# Altium footprint library k7sch4.PcbLib: 7 footprints
Each footprint in its own frame and in the unit in brackets; x right, y up, seen from the top. Pads: shape width x height; smd on the part's side, far side on the other; paste and mask are expansions set on the pad; w line width, h text height; cw(c..) or ccw(c..) is an arc to the next point about the centre after c.
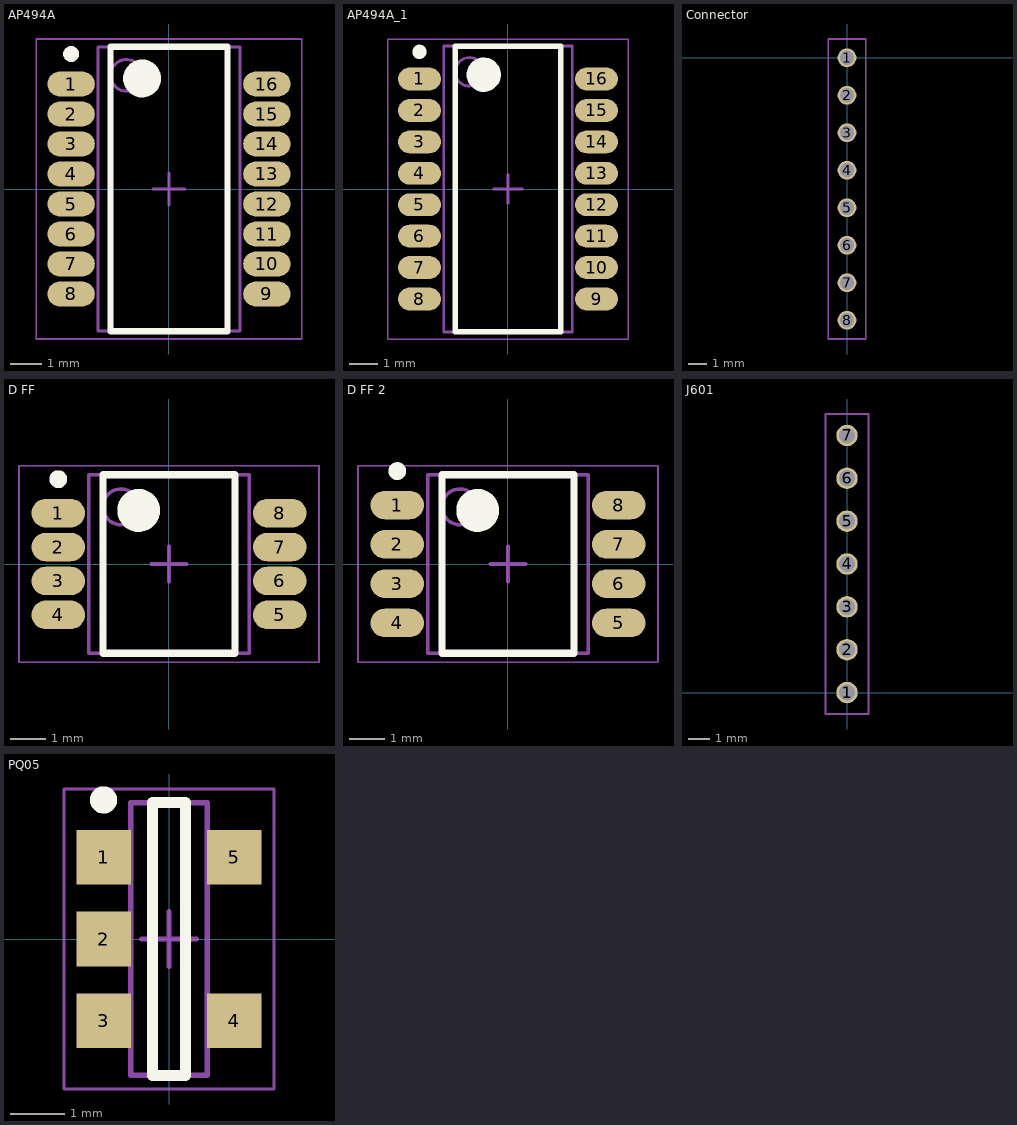
[diagram p0: the footprints below, top view; thin cyan lines are the x and y axes]

## AP494A [mm]
height 2.35
pads (16):
  oval 1.5x0.8 smd: 1(-3.1,3.325) 2(-3.1,2.375) 3(-3.1,1.425) 4(-3.1,0.475) 5(-3.1,-0.475) 6(-3.1,-1.425) 7(-3.1,-2.375) 8(-3.1,-3.325) 9(3.1,-3.325) 10(3.1,-2.375) 11(3.1,-1.425) 12(3.1,-0.475) 13(3.1,0.475) 14(3.1,1.425) 15(3.1,2.375) 16(3.1,3.325)
Top Overlay:
  circle w0.6: c-0.85,3.5 r0.3
  circle w0.25: c-3.1,4.275 r0.125
  lines w0.2: -1.85,-4.5 1.85,-4.5 1.85,4.5 -1.85,4.5 -1.85,-4.5
Mechanical 13:
  circle w0.1: c-1.35,3.6 r0.5
  lines w0.1: -2.25,-4.5 2.25,-4.5 2.25,4.5 -2.25,4.5 -2.25,-4.5
Mechanical 15:
  lines w0.05: -4.2,-4.75 4.2,-4.75 4.2,4.75 -4.2,4.75 -4.2,-4.75
  lines w0.1: -0.5,0 0.5,0 ; 0,-0.5 0,0.5
3D body: height 2.35, standoff 0.1, extent -2.25,-4.5 2.25,4.5

## AP494A_1 [mm]
height 2.35
pads (16):
  oval 1.5x0.8 smd: 1(-3.1,3.85) 2(-3.1,2.75) 3(-3.1,1.65) 4(-3.1,0.55) 5(-3.1,-0.55) 6(-3.1,-1.65) 7(-3.1,-2.75) 8(-3.1,-3.85) 9(3.1,-3.85) 10(3.1,-2.75) 11(3.1,-1.65) 12(3.1,-0.55) 13(3.1,0.55) 14(3.1,1.65) 15(3.1,2.75) 16(3.1,3.85)
Top Overlay:
  circle w0.6: c-0.85,4 r0.3
  circle w0.25: c-3.1,4.8 r0.125
  lines w0.2: -1.85,-5 1.85,-5 1.85,5 -1.85,5 -1.85,-5
Mechanical 13:
  circle w0.1: c-1.35,4.1 r0.5
  lines w0.1: -2.25,-5 2.25,-5 2.25,5 -2.25,5 -2.25,-5
Mechanical 15:
  lines w0.05: -4.2,-5.25 4.2,-5.25 4.2,5.25 -4.2,5.25 -4.2,-5.25
  lines w0.1: -0.5,0 0.5,0 ; 0,-0.5 0,0.5
3D body: height 2.35, standoff 0.1, extent -2.25,-5 2.25,5

## Connector [mm]
pads (8):
  round 1 hole 0.75: 1(0,0) 2(0,-2) 3(0,-4) 4(0,-6) 5(0,-8) 6(0,-10) 7(0,-12) 8(0,-14)
Mechanical 15:
  lines w0.1: -1,-15 1,-15 1,1 -1,1 -1,-15

## D FF [mm]
height 2.35
pads (8):
  oval 1.5x0.8 smd: 1(-3.1,1.425) 2(-3.1,0.475) 3(-3.1,-0.475) 4(-3.1,-1.425) 5(3.1,-1.425) 6(3.1,-0.475) 7(3.1,0.475) 8(3.1,1.425)
Top Overlay:
  circle w0.6: c-0.85,1.5 r0.3
  circle w0.25: c-3.1,2.375 r0.125
  lines w0.2: -1.85,-2.5 1.85,-2.5 1.85,2.5 -1.85,2.5 -1.85,-2.5
Mechanical 13:
  circle w0.1: c-1.35,1.6 r0.5
  lines w0.1: -2.25,-2.5 2.25,-2.5 2.25,2.5 -2.25,2.5 -2.25,-2.5
Mechanical 15:
  lines w0.05: -4.2,-2.75 4.2,-2.75 4.2,2.75 -4.2,2.75 -4.2,-2.75
  lines w0.1: -0.5,0 0.5,0 ; 0,-0.5 0,0.5
3D body: height 2.35, standoff 0.1, extent -2.25,-2.5 2.25,2.5

## D FF 2 [mm]
height 2.35
pads (8):
  oval 1.5x0.8 smd: 1(-3.1,1.65) 2(-3.1,0.55) 3(-3.1,-0.55) 4(-3.1,-1.65) 5(3.1,-1.65) 6(3.1,-0.55) 7(3.1,0.55) 8(3.1,1.65)
Top Overlay:
  circle w0.6: c-0.85,1.5 r0.3
  circle w0.25: c-3.1,2.6 r0.125
  lines w0.2: -1.85,-2.5 1.85,-2.5 1.85,2.5 -1.85,2.5 -1.85,-2.5
Mechanical 13:
  circle w0.1: c-1.35,1.6 r0.5
  lines w0.1: -2.25,-2.5 2.25,-2.5 2.25,2.5 -2.25,2.5 -2.25,-2.5
Mechanical 15:
  lines w0.05: -4.2,-2.75 4.2,-2.75 4.2,2.75 -4.2,2.75 -4.2,-2.75
  lines w0.1: -0.5,0 0.5,0 ; 0,-0.5 0,0.5
3D body: height 2.35, standoff 0.1, extent -2.25,-2.5 2.25,2.5

## J601 [mm]
pads (7):
  round 1 hole 0.75: 1(0,0) 2(0,2) 3(0,4) 4(0,6) 5(0,8) 6(0,10) 7(0,12)
Mechanical 15:
  lines w0.1: -1,-1 1,-1 1,13 -1,13 -1,-1

## PQ05 [mm]
height 1.1
pads (5):
  rect 1x1 smd: 1(-1.2,1.5) 2(-1.2,0) 3(-1.2,-1.5) 4(1.2,-1.5) 5(1.2,1.5)
Top Overlay:
  circle w0.25: c-1.2,2.55 r0.125
  lines w0.2: -0.3,-2.5 0.3,-2.5 0.3,2.5 -0.3,2.5 -0.3,-2.5
Mechanical 13:
  lines w0.1: -0.7,-2.5 -0.7,2.5 0.7,2.5 0.7,-2.5 -0.7,-2.5
Mechanical 15:
  lines w0.05: -1.925,-2.75 -1.925,2.75 1.925,2.75 1.925,-2.75 -1.925,-2.75
  lines w0.1: -0.5,0 0.5,0 ; 0,-0.5 0,0.5
3D body: height 1.1, standoff 0.05, extent -0.7,-2.5 0.7,2.5